# Altium schematic symbol library Lesson_02.SchLib: 4 symbols
Pins are listed as number, name and electrical type; pins without a type are passive.

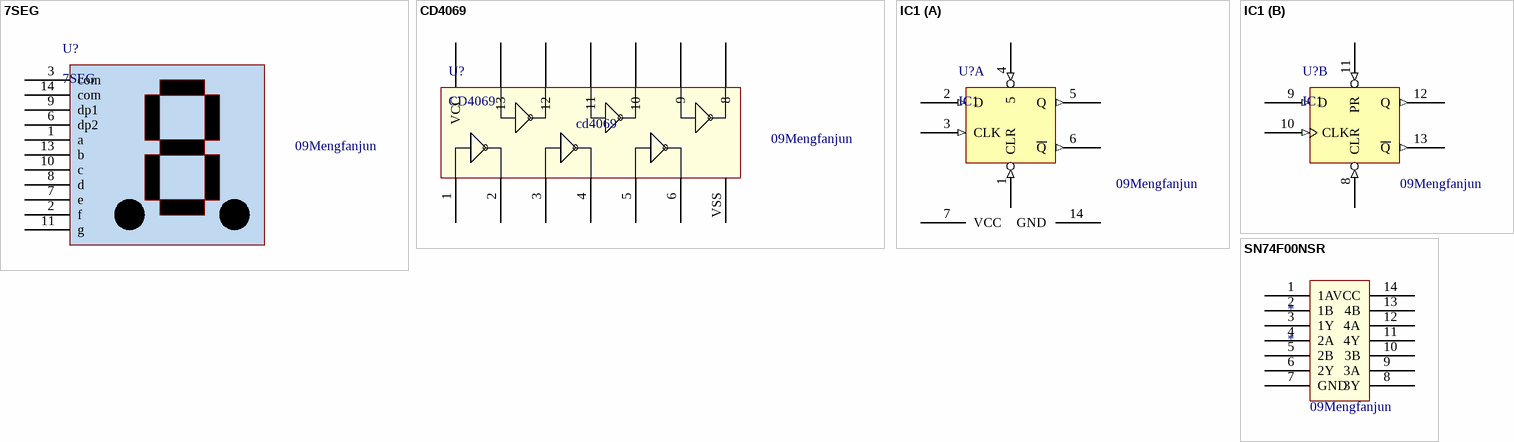
[diagram p0: symbols 7SEG to SN74F00NSR]

## 7SEG
designator U?
pins: 1 a, 2 f, 3 com, 6 dp2, 7 e, 8 d, 9 dp1, 10 c, 11 g, 13 b, 14 com
text: 09Mengfanjun

## CD4069
designator U?
pins: 1, 2, 3, 4, 5, 6, 8, 9, 10, 11, 12, 13, VCC, VSS
text: cd4069; 09Mengfanjun

## IC1
designator U?
part A pins: 1 CLR (in), 2 D (in), 3 CLK (in), 4 5 (in), 5 Q (out), 6 ~{Q} (out), 7 VCC, 14 GND
part B pins: 8 CLR (in), 9 D (in), 10 CLK (in), 11 PR (in), 12 Q (out), 13 ~{Q} (out)
part A text: 09Mengfanjun
part B text: 09Mengfanjun

## SN74F00NSR
designator *
pins: 1 1A, 2 1B, 3 1Y, 4 2A, 5 2B, 6 2Y, 7 GND, 8 3Y, 9 3A, 10 3B, 11 4Y, 12 4A, 13 4B, 14 VCC
text: 09Mengfanjun